# Altium integrated library Linear Technology Power Management Power Control.IntLib: 661 symbols (part 6 of 43)
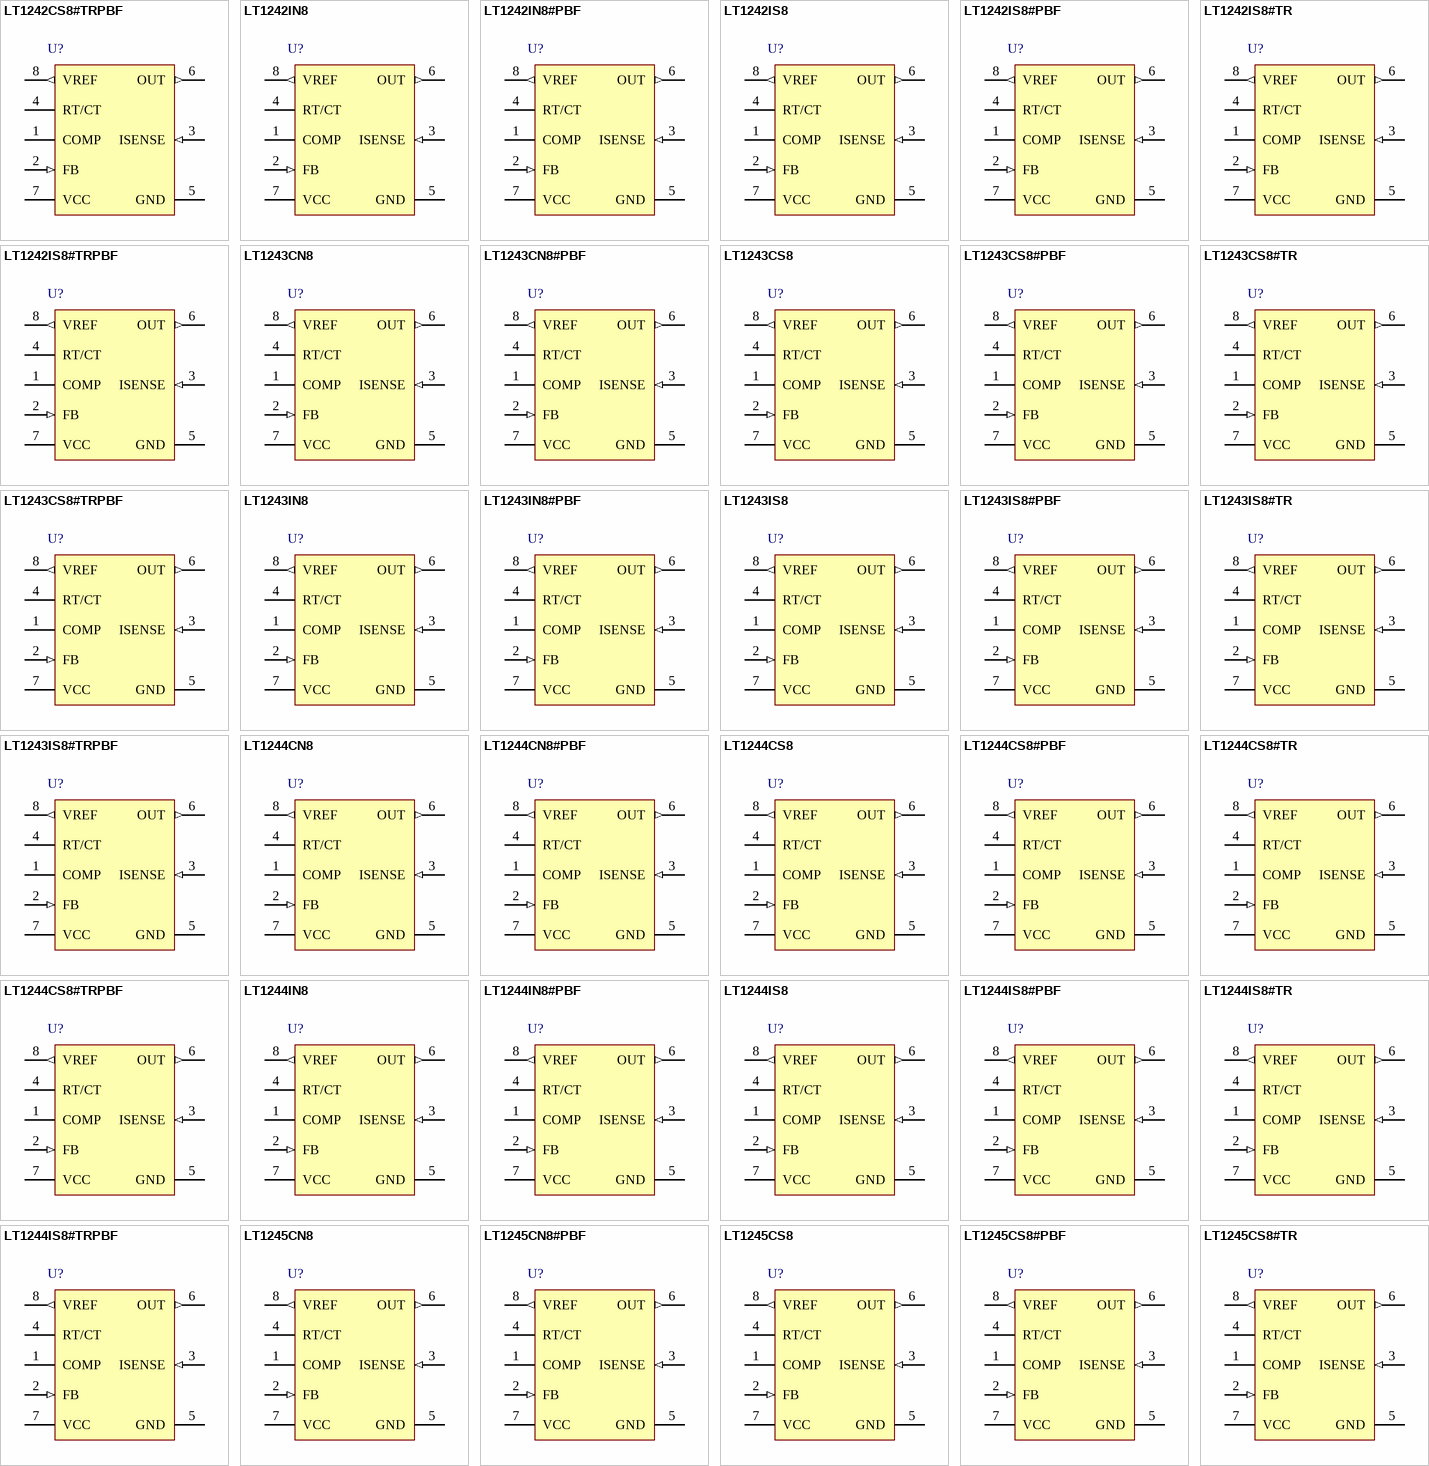
[diagram p24: symbols LT1242CS8#TRPBF to LT1245CS8#TR]

## LT1243IS8#PBF
designator U?
High Speed Current Mode Pulse Width Modulator, 8-pin SOIC (S8-8), -40 to 100 degC, Pb-Free; Manufacturer: Linear Technology; PartNumber: LT1243IS8#PBF; DatasheetVersion: Rev. A; PackageVersion: Rev. G, 03/2012; PackageReference: S8-8; PackageDescription: 8-Pin Plastic Small Outline (Narrow .150 Inch), Body 4.9 x 3.9 mm, Pitch 1.27 mm; Supplier 1: Digi-Key; Supplier Part Number 1: LT1243IS8#PBF-ND; Supplier 2: Newark; Supplier Part Number 2: 57M2974; RoHS: TRUE; Mounting Technology: Surface Mount; ComponentLink1Description: Manufacturer URL; ComponentLink1URL: http://www.linear.com/; ComponentLink2Description: Datasheet; ComponentLink2URL: http://cds.linear.com/docs/en/datasheet/1241fa.pdf; ComponentLink3Description: Package Specification; ComponentLink3URL: http://cds.linear.com/docs/en/packaging/05081610_G_SO8.pdf
footprint LT-S8-8_N (SOIC, 8-Leads, Body 5x4mm, Pitch 1.27mm, IPC Medium Density)
footprint LT-S8-8_L (SOIC, 8-Leads, Body 5x4mm, Pitch 1.27mm, IPC High Density)
footprint LT-S8-8_M (SOIC, 8-Leads, Body 5x4mm, Pitch 1.27mm, IPC Low Density)
pins: 1 COMP "Compensation Pin. This pin is the output of the Error Amplifier and is made available for loop compensation. It can also be used to adjust the maximum value of the current sense clamp voltage to less than 1V. This pin can (See Datasheet)", 2 FB (in) "Voltage Feedback. This pin is the inverting input of the Error Amplifier. The output voltage is normally fed back to this pin through a resistive divider. The noninverting input of the Error Amplifier is internally committed (See Datasheet)", 3 ISENSE (in) "Current Sense. This is the input to the current sense comparator. The trip point of the comparator is set by, and is proportional to, the output voltage of the Error Amplifier.", 4 RT/CT "The oscillator frequency and the deadtime are set by connecting a resistor (RT) from VREF to RT/CT and a capacitor (CT) from RT/CT to GND. The rise time of the oscillator waveform is set by the RC time constant of RT and CT. (See Datasheet)", 5 GND (power) "Ground.", 6 OUT (out) "Current Output. This pin is the output of a high current totem pole output stage. It is capable of driving up to +/-1A of current into a capacitive load such as the gate of a MOSFET.", 7 VCC (power) "Supply Voltage. This pin is the positive supply of the control IC.", 8 VREF (out) "Reference. This is the reference output of the IC. The reference output is used to supply charging current to the external timing resistor RT. The reference provides biasing to a large portion of the internal circuitry, and (See Datasheet)"

## LT1243IS8#TR
designator U?
High Speed Current Mode Pulse Width Modulator, 8-pin SOIC (S8-8), -40 to 100 degC, Tape and Reel; Manufacturer: Linear Technology; PartNumber: LT1243IS8#TR; DatasheetVersion: Rev. A; PackageVersion: Rev. G, 03/2012; PackageReference: S8-8; PackageDescription: 8-Pin Plastic Small Outline (Narrow .150 Inch), Body 4.9 x 3.9 mm, Pitch 1.27 mm; Supplier 1: Digi-Key; Supplier Part Number 1: LT1243IS8#TR-ND; Packing: Tape and Reel; RoHS: FALSE; Mounting Technology: Surface Mount; ComponentLink1Description: Manufacturer URL; ComponentLink1URL: http://www.linear.com/; ComponentLink2Description: Datasheet; ComponentLink2URL: http://cds.linear.com/docs/en/datasheet/1241fa.pdf; ComponentLink3Description: Package Specification; ComponentLink3URL: http://cds.linear.com/docs/en/packaging/05081610_G_SO8.pdf
footprint LT-S8-8_N (SOIC, 8-Leads, Body 5x4mm, Pitch 1.27mm, IPC Medium Density)
footprint LT-S8-8_L (SOIC, 8-Leads, Body 5x4mm, Pitch 1.27mm, IPC High Density)
footprint LT-S8-8_M (SOIC, 8-Leads, Body 5x4mm, Pitch 1.27mm, IPC Low Density)
pins: 1 COMP "Compensation Pin. This pin is the output of the Error Amplifier and is made available for loop compensation. It can also be used to adjust the maximum value of the current sense clamp voltage to less than 1V. This pin can (See Datasheet)", 2 FB (in) "Voltage Feedback. This pin is the inverting input of the Error Amplifier. The output voltage is normally fed back to this pin through a resistive divider. The noninverting input of the Error Amplifier is internally committed (See Datasheet)", 3 ISENSE (in) "Current Sense. This is the input to the current sense comparator. The trip point of the comparator is set by, and is proportional to, the output voltage of the Error Amplifier.", 4 RT/CT "The oscillator frequency and the deadtime are set by connecting a resistor (RT) from VREF to RT/CT and a capacitor (CT) from RT/CT to GND. The rise time of the oscillator waveform is set by the RC time constant of RT and CT. (See Datasheet)", 5 GND (power) "Ground.", 6 OUT (out) "Current Output. This pin is the output of a high current totem pole output stage. It is capable of driving up to +/-1A of current into a capacitive load such as the gate of a MOSFET.", 7 VCC (power) "Supply Voltage. This pin is the positive supply of the control IC.", 8 VREF (out) "Reference. This is the reference output of the IC. The reference output is used to supply charging current to the external timing resistor RT. The reference provides biasing to a large portion of the internal circuitry, and (See Datasheet)"

## LT1243IS8#TRPBF
designator U?
High Speed Current Mode Pulse Width Modulator, 8-pin SOIC (S8-8), -40 to 100 degC, Pb-Free, Tape and Reel; Manufacturer: Linear Technology; PartNumber: LT1243IS8#TRPBF; DatasheetVersion: Rev. A; PackageVersion: Rev. G, 03/2012; PackageReference: S8-8; PackageDescription: 8-Pin Plastic Small Outline (Narrow .150 Inch), Body 4.9 x 3.9 mm, Pitch 1.27 mm; Supplier 1: Digi-Key; Supplier Part Number 1: LT1243IS8#TRPBF-ND; Supplier 2: Newark; Supplier Part Number 2: 57M2976; Packing: Tape and Reel; RoHS: TRUE; Mounting Technology: Surface Mount; ComponentLink1Description: Manufacturer URL; ComponentLink1URL: http://www.linear.com/; ComponentLink2Description: Datasheet; ComponentLink2URL: http://cds.linear.com/docs/en/datasheet/1241fa.pdf; ComponentLink3Description: Package Specification; ComponentLink3URL: http://cds.linear.com/docs/en/packaging/05081610_G_SO8.pdf
footprint LT-S8-8_N (SOIC, 8-Leads, Body 5x4mm, Pitch 1.27mm, IPC Medium Density)
footprint LT-S8-8_L (SOIC, 8-Leads, Body 5x4mm, Pitch 1.27mm, IPC High Density)
footprint LT-S8-8_M (SOIC, 8-Leads, Body 5x4mm, Pitch 1.27mm, IPC Low Density)
pins: 1 COMP "Compensation Pin. This pin is the output of the Error Amplifier and is made available for loop compensation. It can also be used to adjust the maximum value of the current sense clamp voltage to less than 1V. This pin can (See Datasheet)", 2 FB (in) "Voltage Feedback. This pin is the inverting input of the Error Amplifier. The output voltage is normally fed back to this pin through a resistive divider. The noninverting input of the Error Amplifier is internally committed (See Datasheet)", 3 ISENSE (in) "Current Sense. This is the input to the current sense comparator. The trip point of the comparator is set by, and is proportional to, the output voltage of the Error Amplifier.", 4 RT/CT "The oscillator frequency and the deadtime are set by connecting a resistor (RT) from VREF to RT/CT and a capacitor (CT) from RT/CT to GND. The rise time of the oscillator waveform is set by the RC time constant of RT and CT. (See Datasheet)", 5 GND (power) "Ground.", 6 OUT (out) "Current Output. This pin is the output of a high current totem pole output stage. It is capable of driving up to +/-1A of current into a capacitive load such as the gate of a MOSFET.", 7 VCC (power) "Supply Voltage. This pin is the positive supply of the control IC.", 8 VREF (out) "Reference. This is the reference output of the IC. The reference output is used to supply charging current to the external timing resistor RT. The reference provides biasing to a large portion of the internal circuitry, and (See Datasheet)"

## LT1244CN8
designator U?
High Speed Current Mode Pulse Width Modulator, 8-pin DIP (N8-8), 0 to 100 degC; Manufacturer: Linear Technology; PartNumber: LT1244CN8; DatasheetVersion: Rev. A; PackageVersion: Rev. I, 07/2011; PackageReference: N8-8; PackageDescription: 8-Pin PDIP, Body 10.16 x 6.48 mm, Pitch 2.54 mm; RoHS: FALSE; Mounting Technology: Through Hole; ComponentLink1Description: Manufacturer URL; ComponentLink1URL: http://www.linear.com/; ComponentLink2Description: Datasheet; ComponentLink2URL: http://cds.linear.com/docs/en/datasheet/1241fa.pdf; ComponentLink3Description: Package Specification; ComponentLink3URL: http://www.linear.com/docs/en/packaging/05081510_I_N8.pdf
footprint LT-N8-8 (DIP, 8-Leads, Body 10.15x6.85mm, Pitch 2.54mm)
pins: 1 COMP "Compensation Pin. This pin is the output of the Error Amplifier and is made available for loop compensation. It can also be used to adjust the maximum value of the current sense clamp voltage to less than 1V. This pin can (See Datasheet)", 2 FB (in) "Voltage Feedback. This pin is the inverting input of the Error Amplifier. The output voltage is normally fed back to this pin through a resistive divider. The noninverting input of the Error Amplifier is internally committed (See Datasheet)", 3 ISENSE (in) "Current Sense. This is the input to the current sense comparator. The trip point of the comparator is set by, and is proportional to, the output voltage of the Error Amplifier.", 4 RT/CT "The oscillator frequency and the deadtime are set by connecting a resistor (RT) from VREF to RT/CT and a capacitor (CT) from RT/CT to GND. The rise time of the oscillator waveform is set by the RC time constant of RT and CT. (See Datasheet)", 5 GND (power) "Ground.", 6 OUT (out) "Current Output. This pin is the output of a high current totem pole output stage. It is capable of driving up to +/-1A of current into a capacitive load such as the gate of a MOSFET.", 7 VCC (power) "Supply Voltage. This pin is the positive supply of the control IC.", 8 VREF (out) "Reference. This is the reference output of the IC. The reference output is used to supply charging current to the external timing resistor RT. The reference provides biasing to a large portion of the internal circuitry, and (See Datasheet)"

## LT1244CN8#PBF
designator U?
High Speed Current Mode Pulse Width Modulator, 8-pin DIP (N8-8), 0 to 100 degC, Pb-Free; Manufacturer: Linear Technology; PartNumber: LT1244CN8#PBF; DatasheetVersion: Rev. A; PackageVersion: Rev. I, 07/2011; PackageReference: N8-8; PackageDescription: 8-Pin PDIP, Body 10.16 x 6.48 mm, Pitch 2.54 mm; Supplier 1: Digi-Key; Supplier Part Number 1: LT1244CN8#PBF-ND; Supplier 2: Newark; Supplier Part Number 2: 57M2978; RoHS: TRUE; Mounting Technology: Through Hole; ComponentLink1Description: Manufacturer URL; ComponentLink1URL: http://www.linear.com/; ComponentLink2Description: Datasheet; ComponentLink2URL: http://cds.linear.com/docs/en/datasheet/1241fa.pdf; ComponentLink3Description: Package Specification; ComponentLink3URL: http://www.linear.com/docs/en/packaging/05081510_I_N8.pdf
footprint LT-N8-8 (DIP, 8-Leads, Body 10.15x6.85mm, Pitch 2.54mm)
pins: 1 COMP "Compensation Pin. This pin is the output of the Error Amplifier and is made available for loop compensation. It can also be used to adjust the maximum value of the current sense clamp voltage to less than 1V. This pin can (See Datasheet)", 2 FB (in) "Voltage Feedback. This pin is the inverting input of the Error Amplifier. The output voltage is normally fed back to this pin through a resistive divider. The noninverting input of the Error Amplifier is internally committed (See Datasheet)", 3 ISENSE (in) "Current Sense. This is the input to the current sense comparator. The trip point of the comparator is set by, and is proportional to, the output voltage of the Error Amplifier.", 4 RT/CT "The oscillator frequency and the deadtime are set by connecting a resistor (RT) from VREF to RT/CT and a capacitor (CT) from RT/CT to GND. The rise time of the oscillator waveform is set by the RC time constant of RT and CT. (See Datasheet)", 5 GND (power) "Ground.", 6 OUT (out) "Current Output. This pin is the output of a high current totem pole output stage. It is capable of driving up to +/-1A of current into a capacitive load such as the gate of a MOSFET.", 7 VCC (power) "Supply Voltage. This pin is the positive supply of the control IC.", 8 VREF (out) "Reference. This is the reference output of the IC. The reference output is used to supply charging current to the external timing resistor RT. The reference provides biasing to a large portion of the internal circuitry, and (See Datasheet)"

## LT1244CS8
designator U?
High Speed Current Mode Pulse Width Modulator, 8-pin SOIC (S8-8), 0 to 100 degC; Manufacturer: Linear Technology; PartNumber: LT1244CS8; DatasheetVersion: Rev. A; PackageVersion: Rev. G, 03/2012; PackageReference: S8-8; PackageDescription: 8-Pin Plastic Small Outline (Narrow .150 Inch), Body 4.9 x 3.9 mm, Pitch 1.27 mm; Supplier 1: Digi-Key; Supplier Part Number 1: LT1244CS8-ND; RoHS: FALSE; Mounting Technology: Surface Mount; ComponentLink1Description: Manufacturer URL; ComponentLink1URL: http://www.linear.com/; ComponentLink2Description: Datasheet; ComponentLink2URL: http://cds.linear.com/docs/en/datasheet/1241fa.pdf; ComponentLink3Description: Package Specification; ComponentLink3URL: http://cds.linear.com/docs/en/packaging/05081610_G_SO8.pdf
footprint LT-S8-8_N (SOIC, 8-Leads, Body 5x4mm, Pitch 1.27mm, IPC Medium Density)
footprint LT-S8-8_L (SOIC, 8-Leads, Body 5x4mm, Pitch 1.27mm, IPC High Density)
footprint LT-S8-8_M (SOIC, 8-Leads, Body 5x4mm, Pitch 1.27mm, IPC Low Density)
pins: 1 COMP "Compensation Pin. This pin is the output of the Error Amplifier and is made available for loop compensation. It can also be used to adjust the maximum value of the current sense clamp voltage to less than 1V. This pin can (See Datasheet)", 2 FB (in) "Voltage Feedback. This pin is the inverting input of the Error Amplifier. The output voltage is normally fed back to this pin through a resistive divider. The noninverting input of the Error Amplifier is internally committed (See Datasheet)", 3 ISENSE (in) "Current Sense. This is the input to the current sense comparator. The trip point of the comparator is set by, and is proportional to, the output voltage of the Error Amplifier.", 4 RT/CT "The oscillator frequency and the deadtime are set by connecting a resistor (RT) from VREF to RT/CT and a capacitor (CT) from RT/CT to GND. The rise time of the oscillator waveform is set by the RC time constant of RT and CT. (See Datasheet)", 5 GND (power) "Ground.", 6 OUT (out) "Current Output. This pin is the output of a high current totem pole output stage. It is capable of driving up to +/-1A of current into a capacitive load such as the gate of a MOSFET.", 7 VCC (power) "Supply Voltage. This pin is the positive supply of the control IC.", 8 VREF (out) "Reference. This is the reference output of the IC. The reference output is used to supply charging current to the external timing resistor RT. The reference provides biasing to a large portion of the internal circuitry, and (See Datasheet)"

## LT1244CS8#PBF
designator U?
High Speed Current Mode Pulse Width Modulator, 8-pin SOIC (S8-8), 0 to 100 degC, Pb-Free; Manufacturer: Linear Technology; PartNumber: LT1244CS8#PBF; DatasheetVersion: Rev. A; PackageVersion: Rev. G, 03/2012; PackageReference: S8-8; PackageDescription: 8-Pin Plastic Small Outline (Narrow .150 Inch), Body 4.9 x 3.9 mm, Pitch 1.27 mm; Supplier 1: Digi-Key; Supplier Part Number 1: LT1244CS8#PBF-ND; Supplier 2: Farnell; Supplier Part Number 2: 1273697; RoHS: TRUE; Mounting Technology: Surface Mount; ComponentLink1Description: Manufacturer URL; ComponentLink1URL: http://www.linear.com/; ComponentLink2Description: Datasheet; ComponentLink2URL: http://cds.linear.com/docs/en/datasheet/1241fa.pdf; ComponentLink3Description: Package Specification; ComponentLink3URL: http://cds.linear.com/docs/en/packaging/05081610_G_SO8.pdf
footprint LT-S8-8_N (SOIC, 8-Leads, Body 5x4mm, Pitch 1.27mm, IPC Medium Density)
footprint LT-S8-8_L (SOIC, 8-Leads, Body 5x4mm, Pitch 1.27mm, IPC High Density)
footprint LT-S8-8_M (SOIC, 8-Leads, Body 5x4mm, Pitch 1.27mm, IPC Low Density)
pins: 1 COMP "Compensation Pin. This pin is the output of the Error Amplifier and is made available for loop compensation. It can also be used to adjust the maximum value of the current sense clamp voltage to less than 1V. This pin can (See Datasheet)", 2 FB (in) "Voltage Feedback. This pin is the inverting input of the Error Amplifier. The output voltage is normally fed back to this pin through a resistive divider. The noninverting input of the Error Amplifier is internally committed (See Datasheet)", 3 ISENSE (in) "Current Sense. This is the input to the current sense comparator. The trip point of the comparator is set by, and is proportional to, the output voltage of the Error Amplifier.", 4 RT/CT "The oscillator frequency and the deadtime are set by connecting a resistor (RT) from VREF to RT/CT and a capacitor (CT) from RT/CT to GND. The rise time of the oscillator waveform is set by the RC time constant of RT and CT. (See Datasheet)", 5 GND (power) "Ground.", 6 OUT (out) "Current Output. This pin is the output of a high current totem pole output stage. It is capable of driving up to +/-1A of current into a capacitive load such as the gate of a MOSFET.", 7 VCC (power) "Supply Voltage. This pin is the positive supply of the control IC.", 8 VREF (out) "Reference. This is the reference output of the IC. The reference output is used to supply charging current to the external timing resistor RT. The reference provides biasing to a large portion of the internal circuitry, and (See Datasheet)"

## LT1244CS8#TR
designator U?
High Speed Current Mode Pulse Width Modulator, 8-pin SOIC (S8-8), 0 to 100 degC, Tape and Reel; Manufacturer: Linear Technology; PartNumber: LT1244CS8#TR; DatasheetVersion: Rev. A; PackageVersion: Rev. G, 03/2012; PackageReference: S8-8; PackageDescription: 8-Pin Plastic Small Outline (Narrow .150 Inch), Body 4.9 x 3.9 mm, Pitch 1.27 mm; Supplier 1: Digi-Key; Supplier Part Number 1: LT1244CS8#TR-ND; Packing: Tape and Reel; RoHS: FALSE; Mounting Technology: Surface Mount; ComponentLink1Description: Manufacturer URL; ComponentLink1URL: http://www.linear.com/; ComponentLink2Description: Datasheet; ComponentLink2URL: http://cds.linear.com/docs/en/datasheet/1241fa.pdf; ComponentLink3Description: Package Specification; ComponentLink3URL: http://cds.linear.com/docs/en/packaging/05081610_G_SO8.pdf
footprint LT-S8-8_N (SOIC, 8-Leads, Body 5x4mm, Pitch 1.27mm, IPC Medium Density)
footprint LT-S8-8_L (SOIC, 8-Leads, Body 5x4mm, Pitch 1.27mm, IPC High Density)
footprint LT-S8-8_M (SOIC, 8-Leads, Body 5x4mm, Pitch 1.27mm, IPC Low Density)
pins: 1 COMP "Compensation Pin. This pin is the output of the Error Amplifier and is made available for loop compensation. It can also be used to adjust the maximum value of the current sense clamp voltage to less than 1V. This pin can (See Datasheet)", 2 FB (in) "Voltage Feedback. This pin is the inverting input of the Error Amplifier. The output voltage is normally fed back to this pin through a resistive divider. The noninverting input of the Error Amplifier is internally committed (See Datasheet)", 3 ISENSE (in) "Current Sense. This is the input to the current sense comparator. The trip point of the comparator is set by, and is proportional to, the output voltage of the Error Amplifier.", 4 RT/CT "The oscillator frequency and the deadtime are set by connecting a resistor (RT) from VREF to RT/CT and a capacitor (CT) from RT/CT to GND. The rise time of the oscillator waveform is set by the RC time constant of RT and CT. (See Datasheet)", 5 GND (power) "Ground.", 6 OUT (out) "Current Output. This pin is the output of a high current totem pole output stage. It is capable of driving up to +/-1A of current into a capacitive load such as the gate of a MOSFET.", 7 VCC (power) "Supply Voltage. This pin is the positive supply of the control IC.", 8 VREF (out) "Reference. This is the reference output of the IC. The reference output is used to supply charging current to the external timing resistor RT. The reference provides biasing to a large portion of the internal circuitry, and (See Datasheet)"

## LT1244CS8#TRPBF
designator U?
High Speed Current Mode Pulse Width Modulator, 8-pin SOIC (S8-8), 0 to 100 degC, Pb-Free, Tape and Reel; Manufacturer: Linear Technology; PartNumber: LT1244CS8#TRPBF; DatasheetVersion: Rev. A; PackageVersion: Rev. G, 03/2012; PackageReference: S8-8; PackageDescription: 8-Pin Plastic Small Outline (Narrow .150 Inch), Body 4.9 x 3.9 mm, Pitch 1.27 mm; Supplier 1: Digi-Key; Supplier Part Number 1: LT1244CS8#TRPBF-ND; Packing: Tape and Reel; RoHS: TRUE; Mounting Technology: Surface Mount; ComponentLink1Description: Manufacturer URL; ComponentLink1URL: http://www.linear.com/; ComponentLink2Description: Datasheet; ComponentLink2URL: http://cds.linear.com/docs/en/datasheet/1241fa.pdf; ComponentLink3Description: Package Specification; ComponentLink3URL: http://cds.linear.com/docs/en/packaging/05081610_G_SO8.pdf
footprint LT-S8-8_N (SOIC, 8-Leads, Body 5x4mm, Pitch 1.27mm, IPC Medium Density)
footprint LT-S8-8_L (SOIC, 8-Leads, Body 5x4mm, Pitch 1.27mm, IPC High Density)
footprint LT-S8-8_M (SOIC, 8-Leads, Body 5x4mm, Pitch 1.27mm, IPC Low Density)
pins: 1 COMP "Compensation Pin. This pin is the output of the Error Amplifier and is made available for loop compensation. It can also be used to adjust the maximum value of the current sense clamp voltage to less than 1V. This pin can (See Datasheet)", 2 FB (in) "Voltage Feedback. This pin is the inverting input of the Error Amplifier. The output voltage is normally fed back to this pin through a resistive divider. The noninverting input of the Error Amplifier is internally committed (See Datasheet)", 3 ISENSE (in) "Current Sense. This is the input to the current sense comparator. The trip point of the comparator is set by, and is proportional to, the output voltage of the Error Amplifier.", 4 RT/CT "The oscillator frequency and the deadtime are set by connecting a resistor (RT) from VREF to RT/CT and a capacitor (CT) from RT/CT to GND. The rise time of the oscillator waveform is set by the RC time constant of RT and CT. (See Datasheet)", 5 GND (power) "Ground.", 6 OUT (out) "Current Output. This pin is the output of a high current totem pole output stage. It is capable of driving up to +/-1A of current into a capacitive load such as the gate of a MOSFET.", 7 VCC (power) "Supply Voltage. This pin is the positive supply of the control IC.", 8 VREF (out) "Reference. This is the reference output of the IC. The reference output is used to supply charging current to the external timing resistor RT. The reference provides biasing to a large portion of the internal circuitry, and (See Datasheet)"

## LT1244IN8
designator U?
High Speed Current Mode Pulse Width Modulator, 8-pin DIP (N8-8), -40 to 100 degC; Manufacturer: Linear Technology; PartNumber: LT1244IN8; DatasheetVersion: Rev. A; PackageVersion: Rev. I, 07/2011; PackageReference: N8-8; PackageDescription: 8-Pin PDIP, Body 10.16 x 6.48 mm, Pitch 2.54 mm; Supplier 1: Digi-Key; Supplier Part Number 1: LT1244IN8-ND; RoHS: FALSE; Mounting Technology: Through Hole; ComponentLink1Description: Manufacturer URL; ComponentLink1URL: http://www.linear.com/; ComponentLink2Description: Datasheet; ComponentLink2URL: http://cds.linear.com/docs/en/datasheet/1241fa.pdf; ComponentLink3Description: Package Specification; ComponentLink3URL: http://www.linear.com/docs/en/packaging/05081510_I_N8.pdf
footprint LT-N8-8 (DIP, 8-Leads, Body 10.15x6.85mm, Pitch 2.54mm)
pins: 1 COMP "Compensation Pin. This pin is the output of the Error Amplifier and is made available for loop compensation. It can also be used to adjust the maximum value of the current sense clamp voltage to less than 1V. This pin can (See Datasheet)", 2 FB (in) "Voltage Feedback. This pin is the inverting input of the Error Amplifier. The output voltage is normally fed back to this pin through a resistive divider. The noninverting input of the Error Amplifier is internally committed (See Datasheet)", 3 ISENSE (in) "Current Sense. This is the input to the current sense comparator. The trip point of the comparator is set by, and is proportional to, the output voltage of the Error Amplifier.", 4 RT/CT "The oscillator frequency and the deadtime are set by connecting a resistor (RT) from VREF to RT/CT and a capacitor (CT) from RT/CT to GND. The rise time of the oscillator waveform is set by the RC time constant of RT and CT. (See Datasheet)", 5 GND (power) "Ground.", 6 OUT (out) "Current Output. This pin is the output of a high current totem pole output stage. It is capable of driving up to +/-1A of current into a capacitive load such as the gate of a MOSFET.", 7 VCC (power) "Supply Voltage. This pin is the positive supply of the control IC.", 8 VREF (out) "Reference. This is the reference output of the IC. The reference output is used to supply charging current to the external timing resistor RT. The reference provides biasing to a large portion of the internal circuitry, and (See Datasheet)"

## LT1244IN8#PBF
designator U?
High Speed Current Mode Pulse Width Modulator, 8-pin DIP (N8-8), -40 to 100 degC, Pb-Free; Manufacturer: Linear Technology; PartNumber: LT1244IN8#PBF; DatasheetVersion: Rev. A; PackageVersion: Rev. I, 07/2011; PackageReference: N8-8; PackageDescription: 8-Pin PDIP, Body 10.16 x 6.48 mm, Pitch 2.54 mm; Supplier 1: Digi-Key; Supplier Part Number 1: LT1244IN8#PBF-ND; RoHS: TRUE; Mounting Technology: Through Hole; ComponentLink1Description: Manufacturer URL; ComponentLink1URL: http://www.linear.com/; ComponentLink2Description: Datasheet; ComponentLink2URL: http://cds.linear.com/docs/en/datasheet/1241fa.pdf; ComponentLink3Description: Package Specification; ComponentLink3URL: http://www.linear.com/docs/en/packaging/05081510_I_N8.pdf
footprint LT-N8-8 (DIP, 8-Leads, Body 10.15x6.85mm, Pitch 2.54mm)
pins: 1 COMP "Compensation Pin. This pin is the output of the Error Amplifier and is made available for loop compensation. It can also be used to adjust the maximum value of the current sense clamp voltage to less than 1V. This pin can (See Datasheet)", 2 FB (in) "Voltage Feedback. This pin is the inverting input of the Error Amplifier. The output voltage is normally fed back to this pin through a resistive divider. The noninverting input of the Error Amplifier is internally committed (See Datasheet)", 3 ISENSE (in) "Current Sense. This is the input to the current sense comparator. The trip point of the comparator is set by, and is proportional to, the output voltage of the Error Amplifier.", 4 RT/CT "The oscillator frequency and the deadtime are set by connecting a resistor (RT) from VREF to RT/CT and a capacitor (CT) from RT/CT to GND. The rise time of the oscillator waveform is set by the RC time constant of RT and CT. (See Datasheet)", 5 GND (power) "Ground.", 6 OUT (out) "Current Output. This pin is the output of a high current totem pole output stage. It is capable of driving up to +/-1A of current into a capacitive load such as the gate of a MOSFET.", 7 VCC (power) "Supply Voltage. This pin is the positive supply of the control IC.", 8 VREF (out) "Reference. This is the reference output of the IC. The reference output is used to supply charging current to the external timing resistor RT. The reference provides biasing to a large portion of the internal circuitry, and (See Datasheet)"

## LT1244IS8
designator U?
High Speed Current Mode Pulse Width Modulator, 8-pin SOIC (S8-8), -40 to 100 degC; Manufacturer: Linear Technology; PartNumber: LT1244IS8; DatasheetVersion: Rev. A; PackageVersion: Rev. G, 03/2012; PackageReference: S8-8; PackageDescription: 8-Pin Plastic Small Outline (Narrow .150 Inch), Body 4.9 x 3.9 mm, Pitch 1.27 mm; Supplier 1: Digi-Key; Supplier Part Number 1: LT1244IS8-ND; Supplier 2: Newark; Supplier Part Number 2: 57M2985; RoHS: FALSE; Mounting Technology: Surface Mount; ComponentLink1Description: Manufacturer URL; ComponentLink1URL: http://www.linear.com/; ComponentLink2Description: Datasheet; ComponentLink2URL: http://cds.linear.com/docs/en/datasheet/1241fa.pdf; ComponentLink3Description: Package Specification; ComponentLink3URL: http://cds.linear.com/docs/en/packaging/05081610_G_SO8.pdf
footprint LT-S8-8_N (SOIC, 8-Leads, Body 5x4mm, Pitch 1.27mm, IPC Medium Density)
footprint LT-S8-8_L (SOIC, 8-Leads, Body 5x4mm, Pitch 1.27mm, IPC High Density)
footprint LT-S8-8_M (SOIC, 8-Leads, Body 5x4mm, Pitch 1.27mm, IPC Low Density)
pins: 1 COMP "Compensation Pin. This pin is the output of the Error Amplifier and is made available for loop compensation. It can also be used to adjust the maximum value of the current sense clamp voltage to less than 1V. This pin can (See Datasheet)", 2 FB (in) "Voltage Feedback. This pin is the inverting input of the Error Amplifier. The output voltage is normally fed back to this pin through a resistive divider. The noninverting input of the Error Amplifier is internally committed (See Datasheet)", 3 ISENSE (in) "Current Sense. This is the input to the current sense comparator. The trip point of the comparator is set by, and is proportional to, the output voltage of the Error Amplifier.", 4 RT/CT "The oscillator frequency and the deadtime are set by connecting a resistor (RT) from VREF to RT/CT and a capacitor (CT) from RT/CT to GND. The rise time of the oscillator waveform is set by the RC time constant of RT and CT. (See Datasheet)", 5 GND (power) "Ground.", 6 OUT (out) "Current Output. This pin is the output of a high current totem pole output stage. It is capable of driving up to +/-1A of current into a capacitive load such as the gate of a MOSFET.", 7 VCC (power) "Supply Voltage. This pin is the positive supply of the control IC.", 8 VREF (out) "Reference. This is the reference output of the IC. The reference output is used to supply charging current to the external timing resistor RT. The reference provides biasing to a large portion of the internal circuitry, and (See Datasheet)"

## LT1244IS8#PBF
designator U?
High Speed Current Mode Pulse Width Modulator, 8-pin SOIC (S8-8), -40 to 100 degC, Pb-Free; Manufacturer: Linear Technology; PartNumber: LT1244IS8#PBF; DatasheetVersion: Rev. A; PackageVersion: Rev. G, 03/2012; PackageReference: S8-8; PackageDescription: 8-Pin Plastic Small Outline (Narrow .150 Inch), Body 4.9 x 3.9 mm, Pitch 1.27 mm; Supplier 1: Digi-Key; Supplier Part Number 1: LT1244IS8#PBF-ND; Supplier 2: Newark; Supplier Part Number 2: 57M2986; RoHS: TRUE; Mounting Technology: Surface Mount; ComponentLink1Description: Manufacturer URL; ComponentLink1URL: http://www.linear.com/; ComponentLink2Description: Datasheet; ComponentLink2URL: http://cds.linear.com/docs/en/datasheet/1241fa.pdf; ComponentLink3Description: Package Specification; ComponentLink3URL: http://cds.linear.com/docs/en/packaging/05081610_G_SO8.pdf
footprint LT-S8-8_N (SOIC, 8-Leads, Body 5x4mm, Pitch 1.27mm, IPC Medium Density)
footprint LT-S8-8_L (SOIC, 8-Leads, Body 5x4mm, Pitch 1.27mm, IPC High Density)
footprint LT-S8-8_M (SOIC, 8-Leads, Body 5x4mm, Pitch 1.27mm, IPC Low Density)
pins: 1 COMP "Compensation Pin. This pin is the output of the Error Amplifier and is made available for loop compensation. It can also be used to adjust the maximum value of the current sense clamp voltage to less than 1V. This pin can (See Datasheet)", 2 FB (in) "Voltage Feedback. This pin is the inverting input of the Error Amplifier. The output voltage is normally fed back to this pin through a resistive divider. The noninverting input of the Error Amplifier is internally committed (See Datasheet)", 3 ISENSE (in) "Current Sense. This is the input to the current sense comparator. The trip point of the comparator is set by, and is proportional to, the output voltage of the Error Amplifier.", 4 RT/CT "The oscillator frequency and the deadtime are set by connecting a resistor (RT) from VREF to RT/CT and a capacitor (CT) from RT/CT to GND. The rise time of the oscillator waveform is set by the RC time constant of RT and CT. (See Datasheet)", 5 GND (power) "Ground.", 6 OUT (out) "Current Output. This pin is the output of a high current totem pole output stage. It is capable of driving up to +/-1A of current into a capacitive load such as the gate of a MOSFET.", 7 VCC (power) "Supply Voltage. This pin is the positive supply of the control IC.", 8 VREF (out) "Reference. This is the reference output of the IC. The reference output is used to supply charging current to the external timing resistor RT. The reference provides biasing to a large portion of the internal circuitry, and (See Datasheet)"

## LT1244IS8#TR
designator U?
High Speed Current Mode Pulse Width Modulator, 8-pin SOIC (S8-8), -40 to 100 degC, Tape and Reel; Manufacturer: Linear Technology; PartNumber: LT1244IS8#TR; DatasheetVersion: Rev. A; PackageVersion: Rev. G, 03/2012; PackageReference: S8-8; PackageDescription: 8-Pin Plastic Small Outline (Narrow .150 Inch), Body 4.9 x 3.9 mm, Pitch 1.27 mm; Supplier 1: Digi-Key; Supplier Part Number 1: LT1244IS8#TR-ND; Packing: Tape and Reel; RoHS: FALSE; Mounting Technology: Surface Mount; ComponentLink1Description: Manufacturer URL; ComponentLink1URL: http://www.linear.com/; ComponentLink2Description: Datasheet; ComponentLink2URL: http://cds.linear.com/docs/en/datasheet/1241fa.pdf; ComponentLink3Description: Package Specification; ComponentLink3URL: http://cds.linear.com/docs/en/packaging/05081610_G_SO8.pdf
footprint LT-S8-8_N (SOIC, 8-Leads, Body 5x4mm, Pitch 1.27mm, IPC Medium Density)
footprint LT-S8-8_L (SOIC, 8-Leads, Body 5x4mm, Pitch 1.27mm, IPC High Density)
footprint LT-S8-8_M (SOIC, 8-Leads, Body 5x4mm, Pitch 1.27mm, IPC Low Density)
pins: 1 COMP "Compensation Pin. This pin is the output of the Error Amplifier and is made available for loop compensation. It can also be used to adjust the maximum value of the current sense clamp voltage to less than 1V. This pin can (See Datasheet)", 2 FB (in) "Voltage Feedback. This pin is the inverting input of the Error Amplifier. The output voltage is normally fed back to this pin through a resistive divider. The noninverting input of the Error Amplifier is internally committed (See Datasheet)", 3 ISENSE (in) "Current Sense. This is the input to the current sense comparator. The trip point of the comparator is set by, and is proportional to, the output voltage of the Error Amplifier.", 4 RT/CT "The oscillator frequency and the deadtime are set by connecting a resistor (RT) from VREF to RT/CT and a capacitor (CT) from RT/CT to GND. The rise time of the oscillator waveform is set by the RC time constant of RT and CT. (See Datasheet)", 5 GND (power) "Ground.", 6 OUT (out) "Current Output. This pin is the output of a high current totem pole output stage. It is capable of driving up to +/-1A of current into a capacitive load such as the gate of a MOSFET.", 7 VCC (power) "Supply Voltage. This pin is the positive supply of the control IC.", 8 VREF (out) "Reference. This is the reference output of the IC. The reference output is used to supply charging current to the external timing resistor RT. The reference provides biasing to a large portion of the internal circuitry, and (See Datasheet)"

## LT1244IS8#TRPBF
designator U?
High Speed Current Mode Pulse Width Modulator, 8-pin SOIC (S8-8), -40 to 100 degC, Pb-Free, Tape and Reel; Manufacturer: Linear Technology; PartNumber: LT1244IS8#TRPBF; DatasheetVersion: Rev. A; PackageVersion: Rev. G, 03/2012; PackageReference: S8-8; PackageDescription: 8-Pin Plastic Small Outline (Narrow .150 Inch), Body 4.9 x 3.9 mm, Pitch 1.27 mm; Supplier 1: Digi-Key; Supplier Part Number 1: LT1244IS8#TRPBF-ND; Packing: Tape and Reel; RoHS: TRUE; Mounting Technology: Surface Mount; ComponentLink1Description: Manufacturer URL; ComponentLink1URL: http://www.linear.com/; ComponentLink2Description: Datasheet; ComponentLink2URL: http://cds.linear.com/docs/en/datasheet/1241fa.pdf; ComponentLink3Description: Package Specification; ComponentLink3URL: http://cds.linear.com/docs/en/packaging/05081610_G_SO8.pdf
footprint LT-S8-8_N (SOIC, 8-Leads, Body 5x4mm, Pitch 1.27mm, IPC Medium Density)
footprint LT-S8-8_L (SOIC, 8-Leads, Body 5x4mm, Pitch 1.27mm, IPC High Density)
footprint LT-S8-8_M (SOIC, 8-Leads, Body 5x4mm, Pitch 1.27mm, IPC Low Density)
pins: 1 COMP "Compensation Pin. This pin is the output of the Error Amplifier and is made available for loop compensation. It can also be used to adjust the maximum value of the current sense clamp voltage to less than 1V. This pin can (See Datasheet)", 2 FB (in) "Voltage Feedback. This pin is the inverting input of the Error Amplifier. The output voltage is normally fed back to this pin through a resistive divider. The noninverting input of the Error Amplifier is internally committed (See Datasheet)", 3 ISENSE (in) "Current Sense. This is the input to the current sense comparator. The trip point of the comparator is set by, and is proportional to, the output voltage of the Error Amplifier.", 4 RT/CT "The oscillator frequency and the deadtime are set by connecting a resistor (RT) from VREF to RT/CT and a capacitor (CT) from RT/CT to GND. The rise time of the oscillator waveform is set by the RC time constant of RT and CT. (See Datasheet)", 5 GND (power) "Ground.", 6 OUT (out) "Current Output. This pin is the output of a high current totem pole output stage. It is capable of driving up to +/-1A of current into a capacitive load such as the gate of a MOSFET.", 7 VCC (power) "Supply Voltage. This pin is the positive supply of the control IC.", 8 VREF (out) "Reference. This is the reference output of the IC. The reference output is used to supply charging current to the external timing resistor RT. The reference provides biasing to a large portion of the internal circuitry, and (See Datasheet)"

## LT1245CN8
designator U?
High Speed Current Mode Pulse Width Modulator, 8-pin DIP (N8-8), 0 to 100 degC; Manufacturer: Linear Technology; PartNumber: LT1245CN8; DatasheetVersion: Rev. A; PackageVersion: Rev. I, 07/2011; PackageReference: N8-8; PackageDescription: 8-Pin PDIP, Body 10.16 x 6.48 mm, Pitch 2.54 mm; Supplier 1: Digi-Key; Supplier Part Number 1: LT1245CN8-ND; Supplier 2: Newark; Supplier Part Number 2: 57M2989; RoHS: FALSE; Mounting Technology: Through Hole; ComponentLink1Description: Manufacturer URL; ComponentLink1URL: http://www.linear.com/; ComponentLink2Description: Datasheet; ComponentLink2URL: http://cds.linear.com/docs/en/datasheet/1241fa.pdf; ComponentLink3Description: Package Specification; ComponentLink3URL: http://www.linear.com/docs/en/packaging/05081510_I_N8.pdf
footprint LT-N8-8 (DIP, 8-Leads, Body 10.15x6.85mm, Pitch 2.54mm)
pins: 1 COMP "Compensation Pin. This pin is the output of the Error Amplifier and is made available for loop compensation. It can also be used to adjust the maximum value of the current sense clamp voltage to less than 1V. This pin can (See Datasheet)", 2 FB (in) "Voltage Feedback. This pin is the inverting input of the Error Amplifier. The output voltage is normally fed back to this pin through a resistive divider. The noninverting input of the Error Amplifier is internally committed (See Datasheet)", 3 ISENSE (in) "Current Sense. This is the input to the current sense comparator. The trip point of the comparator is set by, and is proportional to, the output voltage of the Error Amplifier.", 4 RT/CT "The oscillator frequency and the deadtime are set by connecting a resistor (RT) from VREF to RT/CT and a capacitor (CT) from RT/CT to GND. The rise time of the oscillator waveform is set by the RC time constant of RT and CT. (See Datasheet)", 5 GND (power) "Ground.", 6 OUT (out) "Current Output. This pin is the output of a high current totem pole output stage. It is capable of driving up to +/-1A of current into a capacitive load such as the gate of a MOSFET.", 7 VCC (power) "Supply Voltage. This pin is the positive supply of the control IC.", 8 VREF (out) "Reference. This is the reference output of the IC. The reference output is used to supply charging current to the external timing resistor RT. The reference provides biasing to a large portion of the internal circuitry, and (See Datasheet)"

## LT1245CN8#PBF
designator U?
High Speed Current Mode Pulse Width Modulator, 8-pin DIP (N8-8), 0 to 100 degC, Pb-Free; Manufacturer: Linear Technology; PartNumber: LT1245CN8#PBF; DatasheetVersion: Rev. A; PackageVersion: Rev. I, 07/2011; PackageReference: N8-8; PackageDescription: 8-Pin PDIP, Body 10.16 x 6.48 mm, Pitch 2.54 mm; Supplier 1: Digi-Key; Supplier Part Number 1: LT1245CN8#PBF-ND; Supplier 2: Newark; Supplier Part Number 2: 57M2990; RoHS: TRUE; Mounting Technology: Through Hole; ComponentLink1Description: Manufacturer URL; ComponentLink1URL: http://www.linear.com/; ComponentLink2Description: Datasheet; ComponentLink2URL: http://cds.linear.com/docs/en/datasheet/1241fa.pdf; ComponentLink3Description: Package Specification; ComponentLink3URL: http://www.linear.com/docs/en/packaging/05081510_I_N8.pdf
footprint LT-N8-8 (DIP, 8-Leads, Body 10.15x6.85mm, Pitch 2.54mm)
pins: 1 COMP "Compensation Pin. This pin is the output of the Error Amplifier and is made available for loop compensation. It can also be used to adjust the maximum value of the current sense clamp voltage to less than 1V. This pin can (See Datasheet)", 2 FB (in) "Voltage Feedback. This pin is the inverting input of the Error Amplifier. The output voltage is normally fed back to this pin through a resistive divider. The noninverting input of the Error Amplifier is internally committed (See Datasheet)", 3 ISENSE (in) "Current Sense. This is the input to the current sense comparator. The trip point of the comparator is set by, and is proportional to, the output voltage of the Error Amplifier.", 4 RT/CT "The oscillator frequency and the deadtime are set by connecting a resistor (RT) from VREF to RT/CT and a capacitor (CT) from RT/CT to GND. The rise time of the oscillator waveform is set by the RC time constant of RT and CT. (See Datasheet)", 5 GND (power) "Ground.", 6 OUT (out) "Current Output. This pin is the output of a high current totem pole output stage. It is capable of driving up to +/-1A of current into a capacitive load such as the gate of a MOSFET.", 7 VCC (power) "Supply Voltage. This pin is the positive supply of the control IC.", 8 VREF (out) "Reference. This is the reference output of the IC. The reference output is used to supply charging current to the external timing resistor RT. The reference provides biasing to a large portion of the internal circuitry, and (See Datasheet)"

## LT1245CS8
designator U?
High Speed Current Mode Pulse Width Modulator, 8-pin SOIC (S8-8), 0 to 100 degC; Manufacturer: Linear Technology; PartNumber: LT1245CS8; DatasheetVersion: Rev. A; PackageVersion: Rev. G, 03/2012; PackageReference: S8-8; PackageDescription: 8-Pin Plastic Small Outline (Narrow .150 Inch), Body 4.9 x 3.9 mm, Pitch 1.27 mm; Supplier 1: Digi-Key; Supplier Part Number 1: LT1245CS8-ND; RoHS: FALSE; Mounting Technology: Surface Mount; ComponentLink1Description: Manufacturer URL; ComponentLink1URL: http://www.linear.com/; ComponentLink2Description: Datasheet; ComponentLink2URL: http://cds.linear.com/docs/en/datasheet/1241fa.pdf; ComponentLink3Description: Package Specification; ComponentLink3URL: http://cds.linear.com/docs/en/packaging/05081610_G_SO8.pdf
footprint LT-S8-8_N (SOIC, 8-Leads, Body 5x4mm, Pitch 1.27mm, IPC Medium Density)
footprint LT-S8-8_L (SOIC, 8-Leads, Body 5x4mm, Pitch 1.27mm, IPC High Density)
footprint LT-S8-8_M (SOIC, 8-Leads, Body 5x4mm, Pitch 1.27mm, IPC Low Density)
pins: 1 COMP "Compensation Pin. This pin is the output of the Error Amplifier and is made available for loop compensation. It can also be used to adjust the maximum value of the current sense clamp voltage to less than 1V. This pin can (See Datasheet)", 2 FB (in) "Voltage Feedback. This pin is the inverting input of the Error Amplifier. The output voltage is normally fed back to this pin through a resistive divider. The noninverting input of the Error Amplifier is internally committed (See Datasheet)", 3 ISENSE (in) "Current Sense. This is the input to the current sense comparator. The trip point of the comparator is set by, and is proportional to, the output voltage of the Error Amplifier.", 4 RT/CT "The oscillator frequency and the deadtime are set by connecting a resistor (RT) from VREF to RT/CT and a capacitor (CT) from RT/CT to GND. The rise time of the oscillator waveform is set by the RC time constant of RT and CT. (See Datasheet)", 5 GND (power) "Ground.", 6 OUT (out) "Current Output. This pin is the output of a high current totem pole output stage. It is capable of driving up to +/-1A of current into a capacitive load such as the gate of a MOSFET.", 7 VCC (power) "Supply Voltage. This pin is the positive supply of the control IC.", 8 VREF (out) "Reference. This is the reference output of the IC. The reference output is used to supply charging current to the external timing resistor RT. The reference provides biasing to a large portion of the internal circuitry, and (See Datasheet)"

## LT1245CS8#PBF
designator U?
High Speed Current Mode Pulse Width Modulator, 8-pin SOIC (S8-8), 0 to 100 degC, Pb-Free; Manufacturer: Linear Technology; PartNumber: LT1245CS8#PBF; DatasheetVersion: Rev. A; PackageVersion: Rev. G, 03/2012; PackageReference: S8-8; PackageDescription: 8-Pin Plastic Small Outline (Narrow .150 Inch), Body 4.9 x 3.9 mm, Pitch 1.27 mm; Supplier 1: Digi-Key; Supplier Part Number 1: LT1245CS8#PBF-ND; RoHS: TRUE; Mounting Technology: Surface Mount; ComponentLink1Description: Manufacturer URL; ComponentLink1URL: http://www.linear.com/; ComponentLink2Description: Datasheet; ComponentLink2URL: http://cds.linear.com/docs/en/datasheet/1241fa.pdf; ComponentLink3Description: Package Specification; ComponentLink3URL: http://cds.linear.com/docs/en/packaging/05081610_G_SO8.pdf
footprint LT-S8-8_N (SOIC, 8-Leads, Body 5x4mm, Pitch 1.27mm, IPC Medium Density)
footprint LT-S8-8_L (SOIC, 8-Leads, Body 5x4mm, Pitch 1.27mm, IPC High Density)
footprint LT-S8-8_M (SOIC, 8-Leads, Body 5x4mm, Pitch 1.27mm, IPC Low Density)
pins: 1 COMP "Compensation Pin. This pin is the output of the Error Amplifier and is made available for loop compensation. It can also be used to adjust the maximum value of the current sense clamp voltage to less than 1V. This pin can (See Datasheet)", 2 FB (in) "Voltage Feedback. This pin is the inverting input of the Error Amplifier. The output voltage is normally fed back to this pin through a resistive divider. The noninverting input of the Error Amplifier is internally committed (See Datasheet)", 3 ISENSE (in) "Current Sense. This is the input to the current sense comparator. The trip point of the comparator is set by, and is proportional to, the output voltage of the Error Amplifier.", 4 RT/CT "The oscillator frequency and the deadtime are set by connecting a resistor (RT) from VREF to RT/CT and a capacitor (CT) from RT/CT to GND. The rise time of the oscillator waveform is set by the RC time constant of RT and CT. (See Datasheet)", 5 GND (power) "Ground.", 6 OUT (out) "Current Output. This pin is the output of a high current totem pole output stage. It is capable of driving up to +/-1A of current into a capacitive load such as the gate of a MOSFET.", 7 VCC (power) "Supply Voltage. This pin is the positive supply of the control IC.", 8 VREF (out) "Reference. This is the reference output of the IC. The reference output is used to supply charging current to the external timing resistor RT. The reference provides biasing to a large portion of the internal circuitry, and (See Datasheet)"